# EAGLE library part STM32L052K8T6 (library neopixelwordclock)
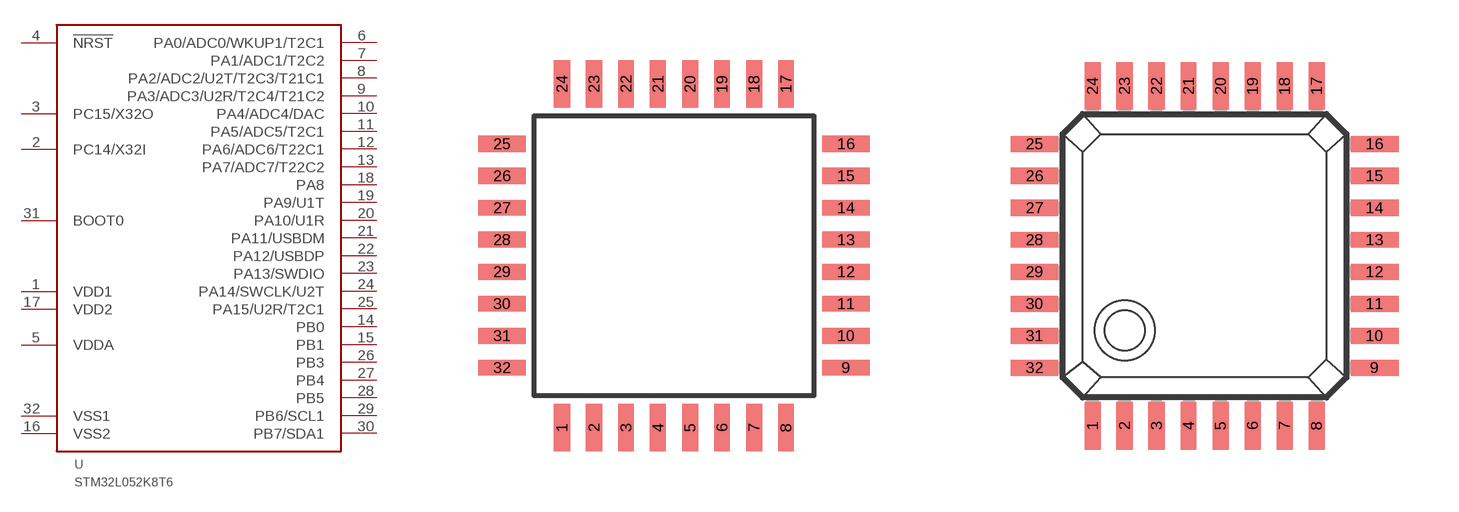
[diagram p5: symbol with the pads of LQFP32; footprints LQFP32, LQFP-32]

Designator prefix U

## STM32L052K8T6-LQFP32A  [LQFP32]
1  VDD1  in
2  PC14/X32I
3  PC15/X32O
4  !NRST  in
5  VDDA  in
6  PA0/ADC0/WKUP1/T2C1
7  PA1/ADC1/T2C2
8  PA2/ADC2/U2T/T2C3/T21C1
9  PA3/ADC3/U2R/T2C4/T21C2
10  PA4/ADC4/DAC
11  PA5/ADC5/T2C1
12  PA6/ADC6/T22C1
13  PA7/ADC7/T22C2
14  PB0
15  PB1
16  VSS2  in
17  VDD2  in
18  PA8
19  PA9/U1T
20  PA10/U1R
21  PA11/USBDM
22  PA12/USBDP
23  PA13/SWDIO
24  PA14/SWCLK/U2T
25  PA15/U2R/T2C1
26  PB3
27  PB4
28  PB5
29  PB6/SCL1
30  PB7/SDA1
31  BOOT0  in
32  VSS1  in

## STM32L052K8T6-LQFP32B  [LQFP-32]
Pads as for LQFP32

## Footprint LQFP32 (pad centres in mm)
LQFP-32 package 7x7 mm case, 0.8 mm lead pitch
smd 0.4 x 1.2: 1 -2.8,-4.3; 2 -2,-4.3; 3 -1.2,-4.3; 4 -0.4,-4.3; 5 0.4,-4.3; 6 1.2,-4.3; 7 2,-4.3; 8 2.8,-4.3; 17 2.8,4.3; 18 2,4.3; 19 1.2,4.3; 20 0.4,4.3; 21 -0.4,4.3; 22 -1.2,4.3; 23 -2,4.3; 24 -2.8,4.3
smd 1.2 x 0.4: 9 4.3,-2.8; 10 4.3,-2; 11 4.3,-1.2; 12 4.3,-0.4; 13 4.3,0.4; 14 4.3,1.2; 15 4.3,2; 16 4.3,2.8; 25 -4.3,2.8; 26 -4.3,2; 27 -4.3,1.2; 28 -4.3,0.4; 29 -4.3,-0.4; 30 -4.3,-1.2; 31 -4.3,-2; 32 -4.3,-2.8

## Footprint LQFP-32 (pad centres in mm)
Quad Flat Package 32 LD LQFP Source: ds232b12.pdf http://www.ftdichip.com
smd 0.4 x 1.2: 1 -2.8,-4.25; 2 -2,-4.25; 3 -1.2,-4.25; 4 -0.4,-4.25; 5 0.4,-4.25; 6 1.2,-4.25; 7 2,-4.25; 8 2.8,-4.25; 17 2.8,4.25; 18 2,4.25; 19 1.2,4.25; 20 0.4,4.25; 21 -0.4,4.25; 22 -1.2,4.25; 23 -2,4.25; 24 -2.8,4.25
smd 1.2 x 0.4: 9 4.25,-2.8; 10 4.25,-2; 11 4.25,-1.2; 12 4.25,-0.4; 13 4.25,0.4; 14 4.25,1.2; 15 4.25,2; 16 4.25,2.8; 25 -4.25,2.8; 26 -4.25,2; 27 -4.25,1.2; 28 -4.25,0.4; 29 -4.25,-0.4; 30 -4.25,-1.2; 31 -4.25,-2; 32 -4.25,-2.8